# Altium integrated library Integrated_Library.IntLib: 7 symbols
Pins are listed as number, name and electrical type; pins without a type are passive.

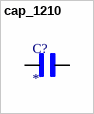
[diagram p0: symbol cap_1210]

## cap_1210
designator C?
CAPACITOR, X7T, 33NF; Capacitance:33000pF; Capacitance Tolerance:Â± 10%; Dielectric Characteristic:X7T; Voltage Rating:630V; Capacitor Case Style:1210 [3225 Metric]; Operating Temperature Min:-55Â°C; Operating Temperature Max:125Â°C; Packaging:Cut Tape; SVHC:No SVHC (19-Dec-2012); Capacitor Terminals:SMD; Operating Temperature Range:-55Â°C to +125Â°C; MF: {'manufacturer': u'Murata Electronics'}; MP: GR332DD72J333KW01L; Package: None; Availability: Unavailable; Value: *; Price: None
footprint CAPC3225X200N
pins: 1, 2


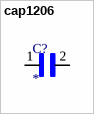
[diagram p1: symbol cap1206]

## cap1206
designator C?
MF: {'manufacturer': u'Syfer'}; MP: 1206J2K00820JCT; Package: None; Availability: Unavailable; Value: *; Price: None
footprint CAPC3216X160N
pins: 1, 2


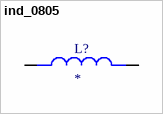
[diagram p2: symbol ind_0805]

## ind_0805
designator L?
MF: {'manufacturer': u'Abracon'}; MP: ASMCI-0805-4R7M-T; Package: None; Availability: Unavailable; Value: *; Price: None
footprint IND_ASMCI-0805-4R7M-T
pins: 1, 2


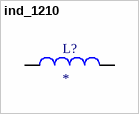
[diagram p3: symbol ind_1210]

## ind_1210
designator L?
Ind Metal Alloy Shielded 1.5uH 20% 1MHz Powdered Iron 2.6A 1210 T/R; MP: 1277AS-H-1R5M=P2; MF: {'manufacturer': u'Murata Electronics'}; Value: *; Package: None; Availability: Unavailable; Price: None
footprint INDC3225X120N
pins: 1, 2


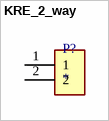
[diagram p4: symbol KRE_2_way]

## KRE_2_way
designator P?
TERM BLOCK 5.08MM 2POS SIDE ENTY; MP: 282837-2; MF: {'manufacturer': u'TE Connectivity'}; Value: *; Package: None; Availability: Unavailable; Price: None
footprint TE_282837-2
pins: 1, 2


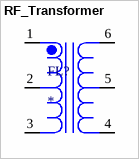
[diagram p5: symbol RF_Transformer]

## RF_Transformer
designator FL?
Bias Injection Choke; MF: {'manufacturer': u'Coilcraft'}; MP: KA4909-AL; Package: None; Availability: Unavailable; Value: *; Price: None
footprint FIL_KA4909-AL
pins: 1, 2, 3, 4, 5, 6


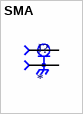
[diagram p6: symbol SMA]

## SMA
designator J?
Johnson Components 142-0701-201 / Conn Recept Straight Pcb .155""; MF: {'manufacturer': u'Cinch Connectivity Solutions Johnson'}; Package: None; Availability: Unavailable; Value: *; MP: 142-0701-201; Price: None
footprint JOHNSON_142-0701-201
pins: 1, 2, 3 2, 4 2, 5 2